# EAGLE library part TPS2373-4RGWR (library TPS2373-4RGWR)
IEEE 802.3bt PoE High-Power PD Interface with Advanced Startup Source: Datasheet <http://www.ti.com/lit/gpn/tps2373>
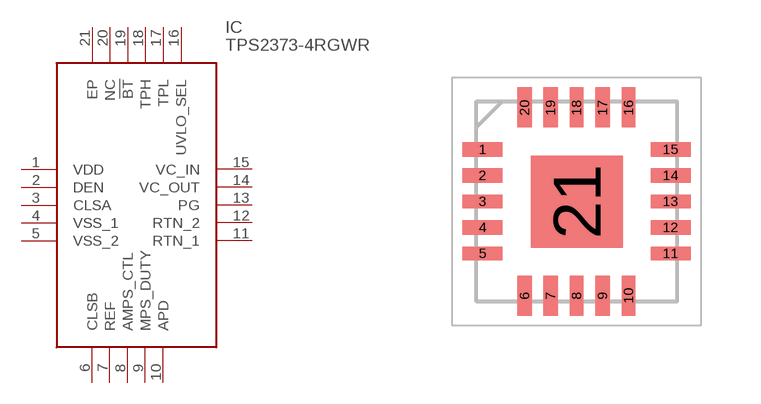
[diagram p0: symbol with the pads of QFN65P500X500X100-21N; footprint QFN65P500X500X100-21N]

Designator prefix IC

## TPS2373-4RGWR (Description: IEEE 802.3bt PoE High-Power PD Interface with Advanced Startup; Height: 1mm; Manufacturer_Name: Texas Instruments; Manufacturer_Part_Number: TPS2373-4RGWR; Mouser_Part_Number: 595-TPS2373-4RGWR; Mouser_Price-Stock: https://www.mouser.co.uk/ProductDetail/Texas-Instruments/TPS2373-4RGWR?qs=AQlKX63v8Rvi%2FgD3UVXVLg%3D%3D)  [QFN65P500X500X100-21N]
1  VDD
2  DEN
3  CLSA
4  VSS_1
5  VSS_2
6  CLSB
7  REF
8  AMPS_CTL
9  MPS_DUTY
10  APD
11  RTN_1
12  RTN_2
13  PG
14  VC_OUT
15  VC_IN
16  UVLO_SEL
17  TPL
18  TPH
19  !BT
20  NC  nc
21  EP

## Footprint QFN65P500X500X100-21N (pad centres in mm)
RGW0020B
smd 1 x 0.35: 1 -2.35,1.3; 2 -2.35,0.65; 3 -2.35,0; 4 -2.35,-0.65; 5 -2.35,-1.3; 11 2.35,-1.3; 12 2.35,-0.65; 13 2.35,0; 14 2.35,0.65; 15 2.35,1.3
smd 0.35 x 1: 6 -1.3,-2.35; 7 -0.65,-2.35; 8 0,-2.35; 9 0.65,-2.35; 10 1.3,-2.35; 16 1.3,2.35; 17 0.65,2.35; 18 0,2.35; 19 -0.65,2.35; 20 -1.3,2.35
smd 2.3 x 2.3: 21 0,0